# EAGLE library part FT232RL (library FTD-AON)
USB 2.0 to RS232 transfer interface IC
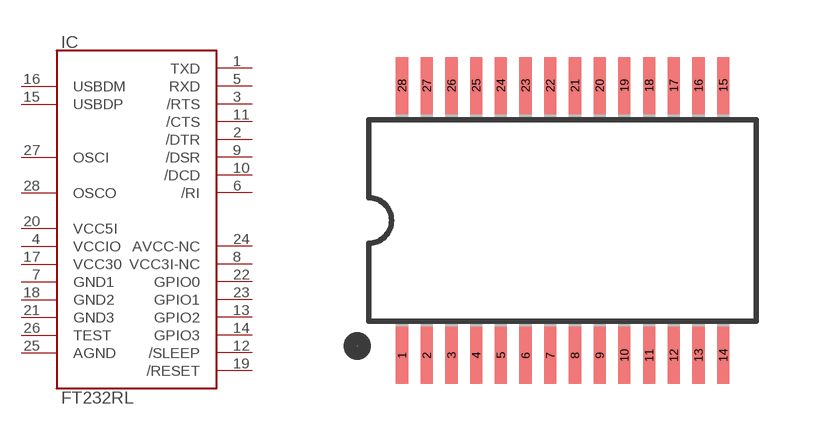
[diagram p1: symbol with the pads of SSOP28DB; footprint SSOP28DB]

Designator prefix IC

## FT232RL  [SSOP28DB]
1  TXD  out
2  /DTR  out
3  /RTS  out
4  VCCIO  in
5  RXD  in
6  /RI
7  GND1  in
8  VCC3I-NC  nc
9  /DSR
10  /DCD
11  /CTS
12  /SLEEP
13  GPIO2  out
14  GPIO3
15  USBDP
16  USBDM
17  VCC30  in
18  GND2  in
19  /RESET  in
20  VCC5I  in
21  GND3  in
22  GPIO0  out
23  GPIO1  out
24  AVCC-NC  nc
25  AGND  in
26  TEST  in
27  OSCI
28  OSCO  out

## Footprint SSOP28DB (pad centres in mm)
SSOP28, 5.8x10.2mm 0.65mm pitch
smd 0.32 x 1.5: 1 -4.225,-3.55; 2 -3.575,-3.55; 3 -2.925,-3.55; 4 -2.275,-3.55; 5 -1.625,-3.55; 6 -0.975,-3.55; 7 -0.325,-3.55; 8 0.325,-3.55; 9 0.975,-3.55; 10 1.625,-3.55; 11 2.275,-3.55; 12 2.925,-3.55; 13 3.575,-3.55; 14 4.225,-3.55; 15 4.225,3.55; 16 3.575,3.55; 17 2.925,3.55; 18 2.275,3.55; 19 1.625,3.55; 20 0.975,3.55; 21 0.325,3.55; 22 -0.325,3.55; 23 -0.975,3.55; 24 -1.625,3.55; 25 -2.275,3.55; 26 -2.925,3.55; 27 -3.575,3.55; 28 -4.225,3.55